# EAGLE library part TLP-250 (library DCDCparts)
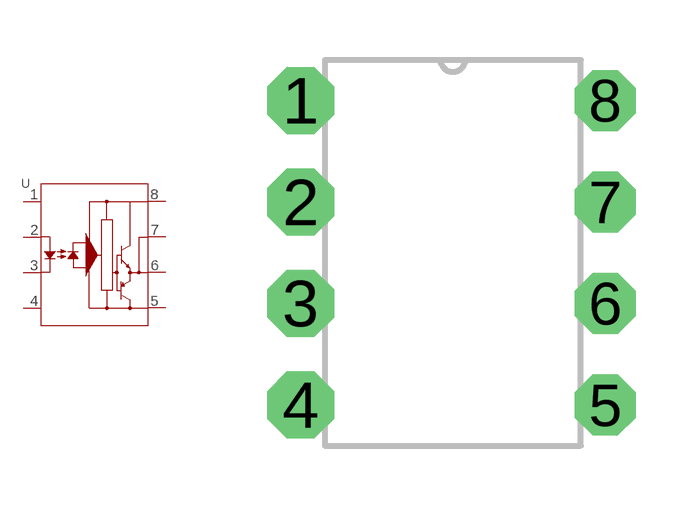
[diagram p0: symbol with the pads of DIP8_TLP250_6P4X9P66_TOS; footprint DIP8_TLP250_6P4X9P66_TOS]

Designator prefix U

## TLP-250 (COPYRIGHT: Copyright (C) 2021 Ultra Librarian. All rights reserved.; MANUFACTURER_PART_NUMBER: TLP-250; MFR_NAME: Toshiba Electronic Devices & Storage Co.)  [DIP8_TLP250_6P4X9P66_TOS]
1  1  nc
2  2  pas
3  3  pas
4  4  nc
5  5  pas
6  6  pas
7  7  pas
8  8  pwr

## Footprint DIP8_TLP250_6P4X9P66_TOS (pad centres in mm)
drill 0.6 pad 1.676 octagon: 1 -3.81,3.81; 2 -3.81,1.27; 3 -3.81,-1.27; 4 -3.81,-3.81
drill 0.6 pad 1.524 octagon: 5 3.81,-3.81; 6 3.81,-1.27; 7 3.81,1.27; 8 3.81,3.81